# Altium footprint library SRP1040_footprint.PcbLib: 2 footprints
Each footprint in its own frame and in the unit in brackets; x right, y up, seen from the top. Pads: shape width x height; smd on the part's side, far side on the other; paste and mask are expansions set on the pad; w line width, h text height; cw(c..) or ccw(c..) is an arc to the next point about the centre after c.
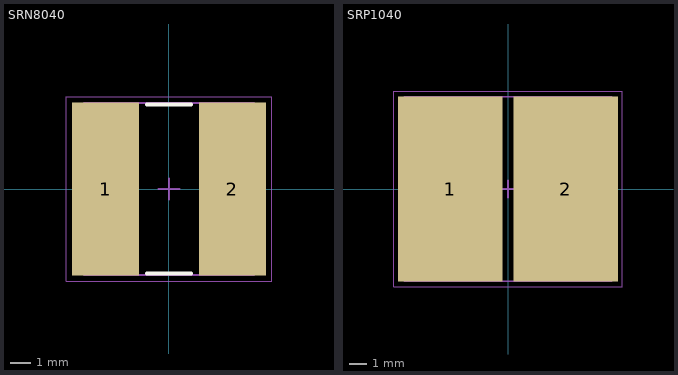
[diagram p0: the footprints below, top view; thin cyan lines are the x and y axes]

## SRN8040 [mm] "Chip Inductor, 2-Leads, Body 8.20x8.15mm, IPC Medium Density"
height 4
pads (2):
  rect 3.2x8.27 smd: 1(-3.03,0) 2(3.03,0)
Top Overlay:
  lines w0.2: -1.05,-4.035 1.05,-4.035 ; -1.05,4.035 1.05,4.035
Mechanical 13:
  lines w0.1: -4.05,-4.1 4.05,-4.1 4.05,4.1 -4.05,4.1 -4.05,-4.1
Mechanical 15:
  lines w0.05: -4.9,-4.4 4.9,-4.4 4.9,4.4 -4.9,4.4 -4.9,-4.4
  lines w0.1: -0.5,0 0.5,0 ; 0,-0.5 0,0.5
3D body: height 4, standoff 0, extent 1.45,-4.1 4.05,4.1
3D body: height 4, standoff 0, extent -4.05,-4.1 -1.45,4.1
3D body: height 4, standoff 0, extent -1.45,-4.1 1.45,4.1

## SRP1040 [mm] "Chip Inductor, 2-Leads, Body 11.00x10.00mm, IPC Medium Density"
height 4.2
pads (2):
  rect 5.94x10.51 smd: 1(-3.28,0) 2(3.28,0)
Mechanical 13:
  lines w0.1: -5.9,-5.25 -5.9,5.25 5.9,5.25 5.9,-5.25 -5.9,-5.25
Mechanical 15:
  lines w0.05: -6.5,-5.55 -6.5,5.55 6.5,5.55 6.5,-5.55 -6.5,-5.55
  lines w0.1: -0.5,0 0.5,0 ; 0,-0.5 0,0.5
3D body: height 4.2, standoff 0, extent -1.15,-5.25 1.15,5.25
3D body: height 4.2, standoff 0, extent -5.9,-5.25 -1.15,5.25
3D body: height 4.2, standoff 0, extent 1.15,-5.25 5.9,5.25